# Altium schematic symbol library 10137062-00021LF.SchLib: 1 symbol
Pins are listed as number, name and electrical type; pins without a type are passive.

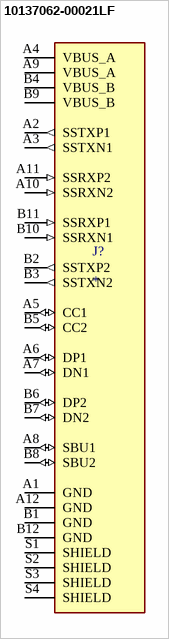
[diagram p0: symbol 10137062-00021LF]

## 10137062-00021LF
designator J?
MF: Amphenol ICC; MP: 10137062-00021LF; Package: None; Price: None; Value: *; Availability: Unavailable
footprint AMPHENOL_10137062-00021LF
pins: A1 GND (power), A2 SSTXP1 (out), A3 SSTXN1 (out), A4 VBUS_A (power), A5 CC1 (io), A6 DP1 (io), A7 DN1 (io), A8 SBU1 (io), A9 VBUS_A (power), A10 SSRXN2 (in), A11 SSRXP2 (in), A12 GND (power), B1 GND (power), B2 SSTXP2 (out), B3 SSTXN2 (out), B4 VBUS_B (power), B5 CC2 (io), B6 DP2 (io), B7 DN2 (io), B8 SBU2 (io), B9 VBUS_B (power), B10 SSRXN1 (in), B11 SSRXP1 (in), B12 GND (power), S1 SHIELD (power), S2 SHIELD (power), S3 SHIELD (power), S4 SHIELD (power)